# Altium footprint library ADP7118ACPZN.PcbLib: 1 footprints
Each footprint in its own frame and in the unit in brackets; x right, y up, seen from the top. Pads: shape width x height; smd on the part's side, far side on the other; paste and mask are expansions set on the pad; w line width, h text height; cw(c..) or ccw(c..) is an arc to the next point about the centre after c.
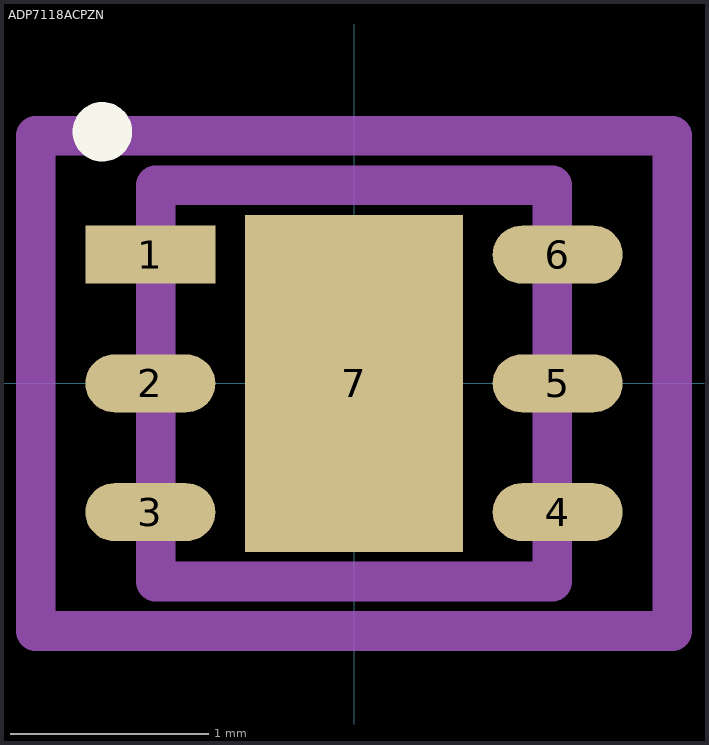
[diagram p0: the footprint, top view; thin cyan lines are the x and y axes]

## ADP7118ACPZN [mm]
height 5.6
pads (7):
  rect 0.656x0.292 smd paste+0 mask+0: 1(-1.028,0.65)
  rrect100% 0.656x0.292 smd paste+0 mask+0: 2(-1.028,0) 3(-1.028,-0.65) 4(1.028,-0.65) 5(1.028,0) 6(1.028,0.65)
  rect 1.1x1.7 smd paste-1000 mask+0: 7(0,0)
Top Overlay:
  circle w0.15: c-1.27,1.27 r0.075
Top Paste:
  rectangle: -0.308,-0.608 0.308,0.608
Top Courtyard:
  lines w0.2: -1.606,-1.25 1.606,-1.25 1.606,1.25 -1.606,1.25 -1.606,-1.25
Top 3D Body:
  lines w0.2: -1,-1 1,-1 1,1 -1,1 -1,-1
Top Component Center:
  lines w0.1: -0.5,0 0.5,0 ; 0,-0.5 0,0.5
3D body "IC_Analog_Devices_ADP195ACPZ-R7_eec.STEP": height 0.25, standoff 0, extent -1.606,-1.25 1.606,1.25